# Altium footprint library SD0805S020S1R0.PcbLib: 1 footprints
Each footprint in its own frame and in the unit in brackets; x right, y up, seen from the top. Pads: shape width x height; smd on the part's side, far side on the other; paste and mask are expansions set on the pad; w line width, h text height; cw(c..) or ccw(c..) is an arc to the next point about the centre after c.
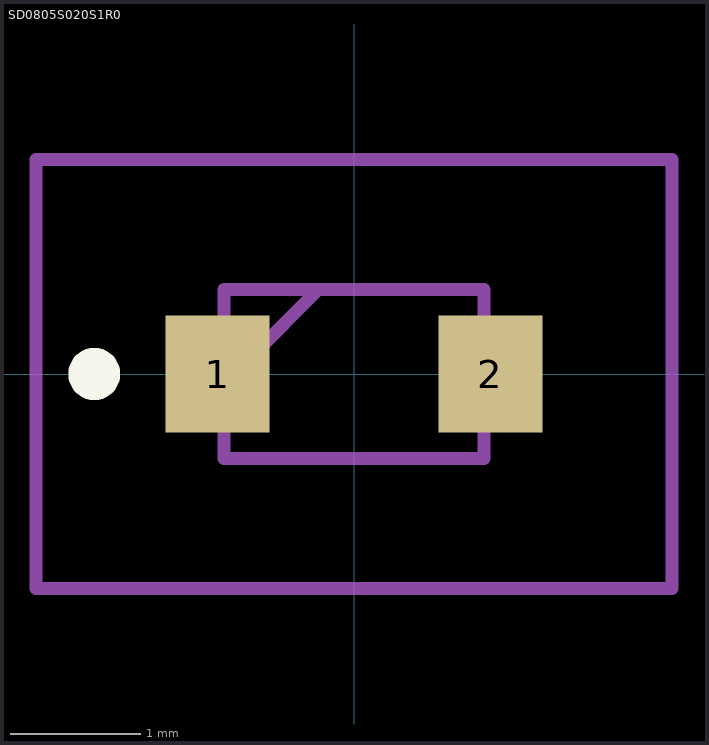
[diagram p0: the footprint, top view; thin cyan lines are the x and y axes]

## SD0805S020S1R0 [mm]
pads (2):
  rect 0.8x0.9 smd: 1(-1.05,0) 2(1.05,0)
Top Overlay:
  lines w0.2: -2,-0.1 cw(c-2,0) -2,0.1 ; -2,-0.1 -2,-0.1 ; -2,-0.1 ccw(c-2,0) -2,0.1 ; -2,0.1 -2,0.1
Mechanical 15:
  lines w0.1: -0.8,0.125 -0.275,0.65 ; -1,-0.65 1,-0.65 1,0.65 -1,0.65 -1,-0.65
Mechanical 20:
  lines w0.1: -2.45,-1.65 2.45,-1.65 2.45,1.65 -2.45,1.65 -2.45,-1.65